# EAGLE library part AU-Y1008 (library ruark2)
USB-A (USB TYPE-A), Stacked USB 1.1 Receptacle Connector 8 Position Through Hole, Right Angle
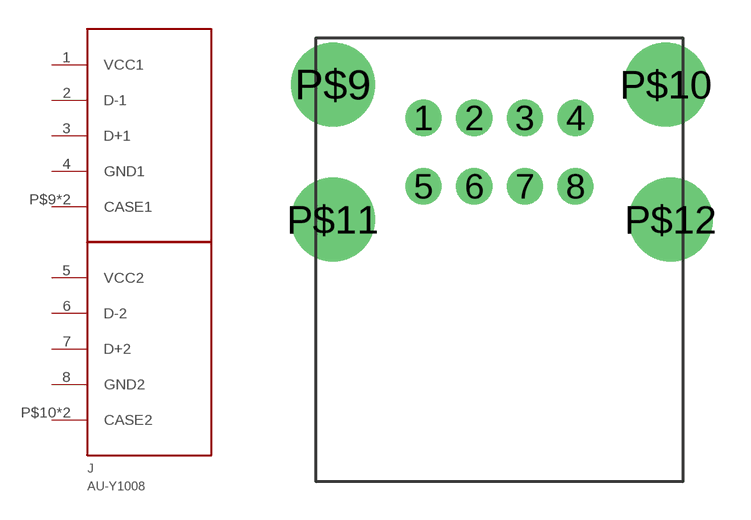
[diagram p154: symbol with the pads of AU-Y1008; footprint AU-Y1008]

Designator prefix J

## AU-Y1008 (PARTNO: AE1086-ND)  [AU-Y1008]
1  VCC1
2  D-1
3  D+1
4  GND1
5  VCC2
6  D-2
7  D+2
8  GND2
P$9  CASE1
P$10  CASE2
P$11  CASE2
P$12  CASE1

## Footprint AU-Y1008 (pad centres in mm)
drill 0.92: 1 -3,1.35; 2 -1,1.35; 3 1,1.35; 4 3,1.35; 5 -3,-1.35; 6 -1,-1.35; 7 1,-1.35; 8 3,-1.35
drill 2.3: P$9 -6.57,2.665; P$10 6.57,2.665; P$11 -6.57,-2.665; P$12 6.755,-2.665